# Altium integrated library SJ-3566AN.IntLib: 1 symbol
Pins are listed as number, name and electrical type; pins without a type are passive.

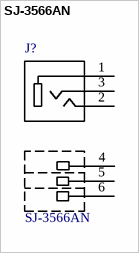
[diagram p0: symbol SJ-3566AN]

## SJ-3566AN
designator J?
3.5 mm, Stereo, Right Angle, Through Hole, SPDT Switch, Audio Jack Connector; MF: CUI Inc.; Package: None; Digi-Key_Part_Number: CP-SJ-3566AN-ND; CUI_purchase_URL: https://www.cui.com/product/interconnect/connectors/audio-connectors/jacks/sj-356xn-series?utm_source=snapeda.com&utm_medium=referral&utm_campaign=snapedaBOM; MP: SJ-3566AN; SnapEDA_Link: https://www.snapeda.com/parts/SJ-3566AN/CUI%20Inc./view-part/?ref=snap; Digi-Key_Purchase_URL: https://www.digikey.com/product-detail/en/cui-inc/SJ-3566AN/CP-SJ-3566AN-ND/305112?utm_source=snapeda&utm_medium=aggregator&utm_campaign=symbol; Value: *
footprint *CUI_SJ-3566AN
pins: 1, 2, 3, 4, 5, 6